# Altium schematic symbol library FiducialMark.SchLib: 1 symbol
Pins are listed as number, name and electrical type; pins without a type are passive.

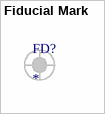
[diagram p0: symbol Fiducial Mark]

## Fiducial Mark
designator FD?  (no BOM)
Fiducial Mark; Manufacturer: Custom; Vendor: Custom; Manufacturer P/N: Fiducial Mark; Vendor P/N: Fiducial Mark
footprint Fiducial Mark